# Altium schematic symbol library ICs.SchLib: 65 symbols
Pins are listed as number, name and electrical type; pins without a type are passive.

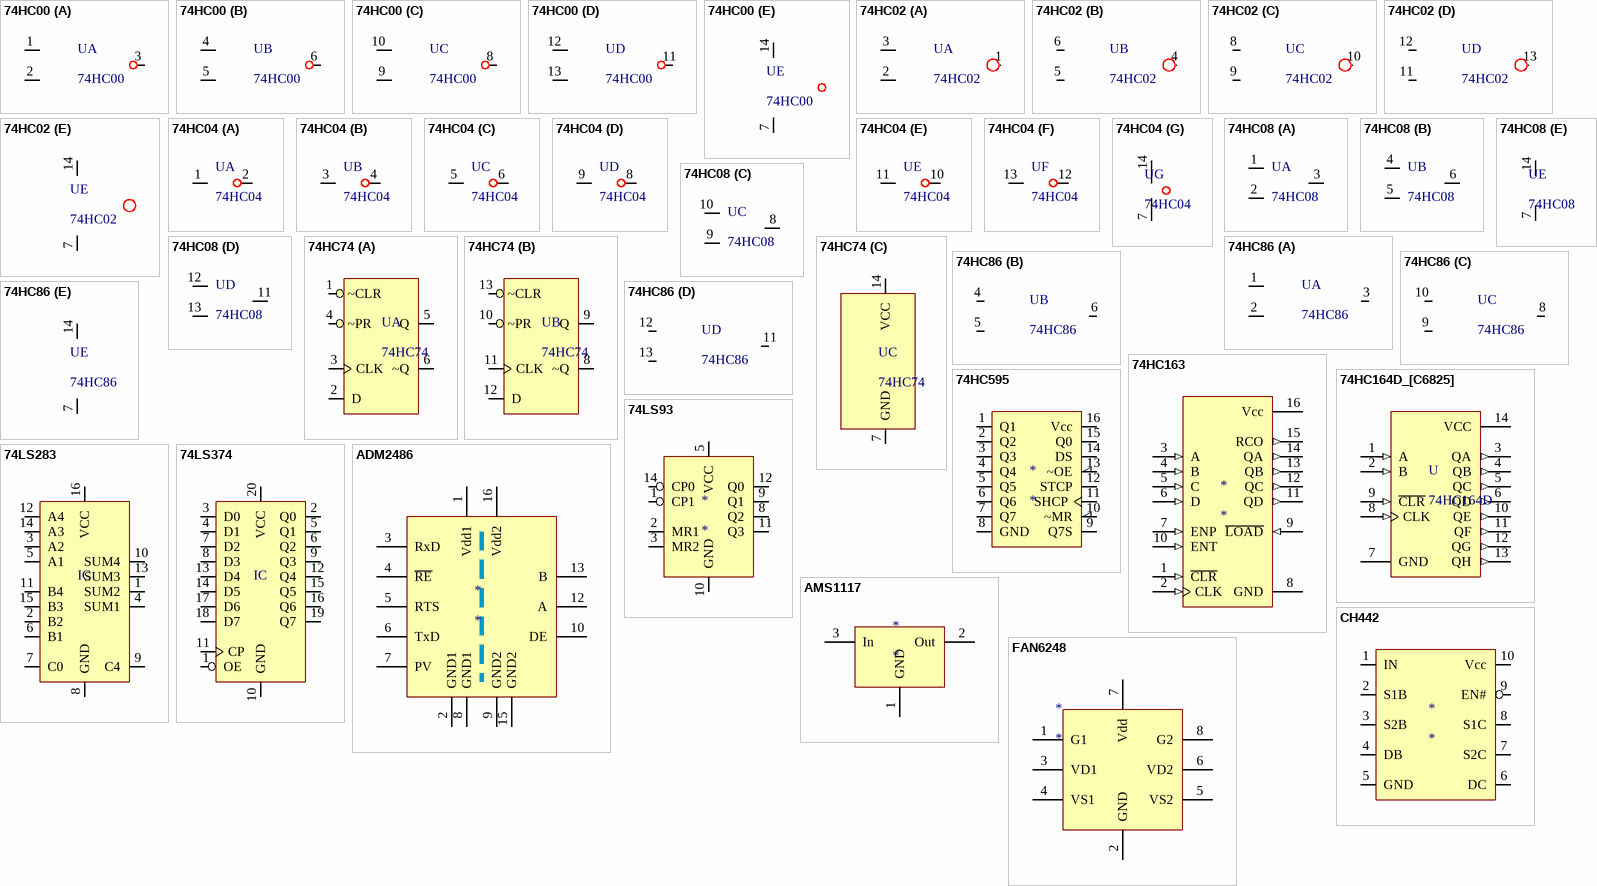
[diagram p0: symbols 74HC00 to FAN6248]

## 74HC00
designator U
footprint DIP14
footprint SO-14
part A pins: 1, 2, 3
part B pins: 4, 5, 6
part C pins: 8, 9, 10
part D pins: 11, 12, 13
part E pins: 7, 14

## 74HC02
designator U
footprint DIP14
footprint SO-14
part A pins: 1, 2, 3
part B pins: 4, 5, 6
part C pins: 8, 9, 10
part D pins: 11, 12, 13
part E pins: 7, 14

## 74HC04
designator U
footprint DIP14
footprint SO-14
part A pins: 1, 2
part B pins: 3, 4
part C pins: 5, 6
part D pins: 8, 9
part E pins: 10, 11
part F pins: 12, 13
part G pins: 7, 14

## 74HC08
designator U
footprint DIP14
footprint SO-14
part A pins: 1, 2, 3
part B pins: 4, 5, 6
part C pins: 8, 9, 10
part D pins: 11, 12, 13
part E pins: 7, 14

## 74HC74
designator U
footprint DIP14
footprint SO-14
part A pins: 1  ~CLR, 2 D, 3 CLK, 4  ~PR, 5 Q, 6 ~Q
part B pins: 8 ~Q, 9 Q, 10  ~PR, 11 CLK, 12 D, 13  ~CLR
part C pins: 7 GND, 14 VCC (power)

## 74HC86
designator U
footprint DIP14
footprint SO-14
part A pins: 1, 2, 3
part B pins: 4, 5, 6
part C pins: 8, 9, 10
part D pins: 11, 12, 13
part E pins: 7, 14

## 74HC163
designator *
footprint SO-16
pins: 1 ~{CLR} (in), 2 CLK (in), 3 A (in), 4 B (in), 5 C (in), 6 D (in), 7 ENP (in), 8 GND (power), 9 ~{LOAD} (in), 10 ENT (in), 11 QD (out), 12 QC (out), 13 QB (out), 14 QA (out), 15 RCO (out), 16 Vcc (power)

## 74HC164D_[C6825]
designator U, comment 74HC164D
ComponentLink1URL: http://www.szlcsc.com/product/details_7297.html; Package: SOIC-14_150mil; Supplier: LC; SuppliersPartNumber: C6825
footprint SO-14
pins: 1 A (in), 2 B (in), 3 QA (out), 4 QB (out), 5 QC (out), 6 QD (out), 7 GND (power), 8 CLK (in), 9 ~{CLR} (in), 10 QE (out), 11 QF (out), 12 QG (out), 13 QH (out), 14 VCC (power)

## 74HC595
designator *
footprint DIP-16
footprint SO-16
pins: 1 Q1, 2 Q2, 3 Q3, 4 Q4, 5 Q5, 6 Q6, 7 Q7, 8 GND, 9 Q7S, 10 ~MR, 11 SHCP, 12 STCP, 13 ~OE, 14 DS, 15 Q0, 16 Vcc

## 74LS93
designator *
footprint SO-14
pins: 1 CP1, 2 MR1, 3 MR2, 5 VCC, 8 Q2, 9 Q1, 10 GND, 11 Q3, 12 Q0, 14 CP0

## 74LS283
designator IC  (value not drawn)
footprint DIP-16
pins: 1 SUM2, 2 B2, 3 A2, 4 SUM1, 5 A1, 6 B1, 7 C0, 8 GND, 9 C4, 10 SUM4, 11 B4, 12 A4, 13 SUM3, 14 A3, 15 B3, 16 VCC

## 74LS374
designator IC  (value not drawn)
footprint DIP-20 (Footprint not found)
pins: 1 OE, 2 Q0, 3 D0, 4 D1, 5 Q1, 6 Q2, 7 D2, 8 D3, 9 Q3, 10 GND, 11 CP, 12 Q4, 13 D4, 14 D5, 15 Q5, 16 Q6, 17 D6, 18 D7, 19 Q7, 20 VCC

## ADM2486
designator *
footprint SOIC-16W
pins: 1 Vdd1, 2 GND1, 3 RxD (power), 4 ~{RE}, 5 RTS (power), 6 TxD, 7 PV (power), 8 GND1, 9 GND2, 10 DE (power), 12 A (power), 13 B, 15 GND2, 16 Vdd2

## AMS1117
designator *
footprint SOT-223
pins: 1 GND, 2 Out, 3 In

## CH442
designator *
footprint MSOP10
pins: 1 IN, 2 S1B, 3 S2B, 4 DB, 5 GND, 6 DC, 7 S2C, 8 S1C, 9 EN#, 10 Vcc

## FAN6248
designator *
footprint SO-8
pins: 1 G1 (power), 2 GND, 3 VD1, 4 VS1 (power), 5 VS2, 6 VD2 (power), 7 Vdd, 8 G2 (power)

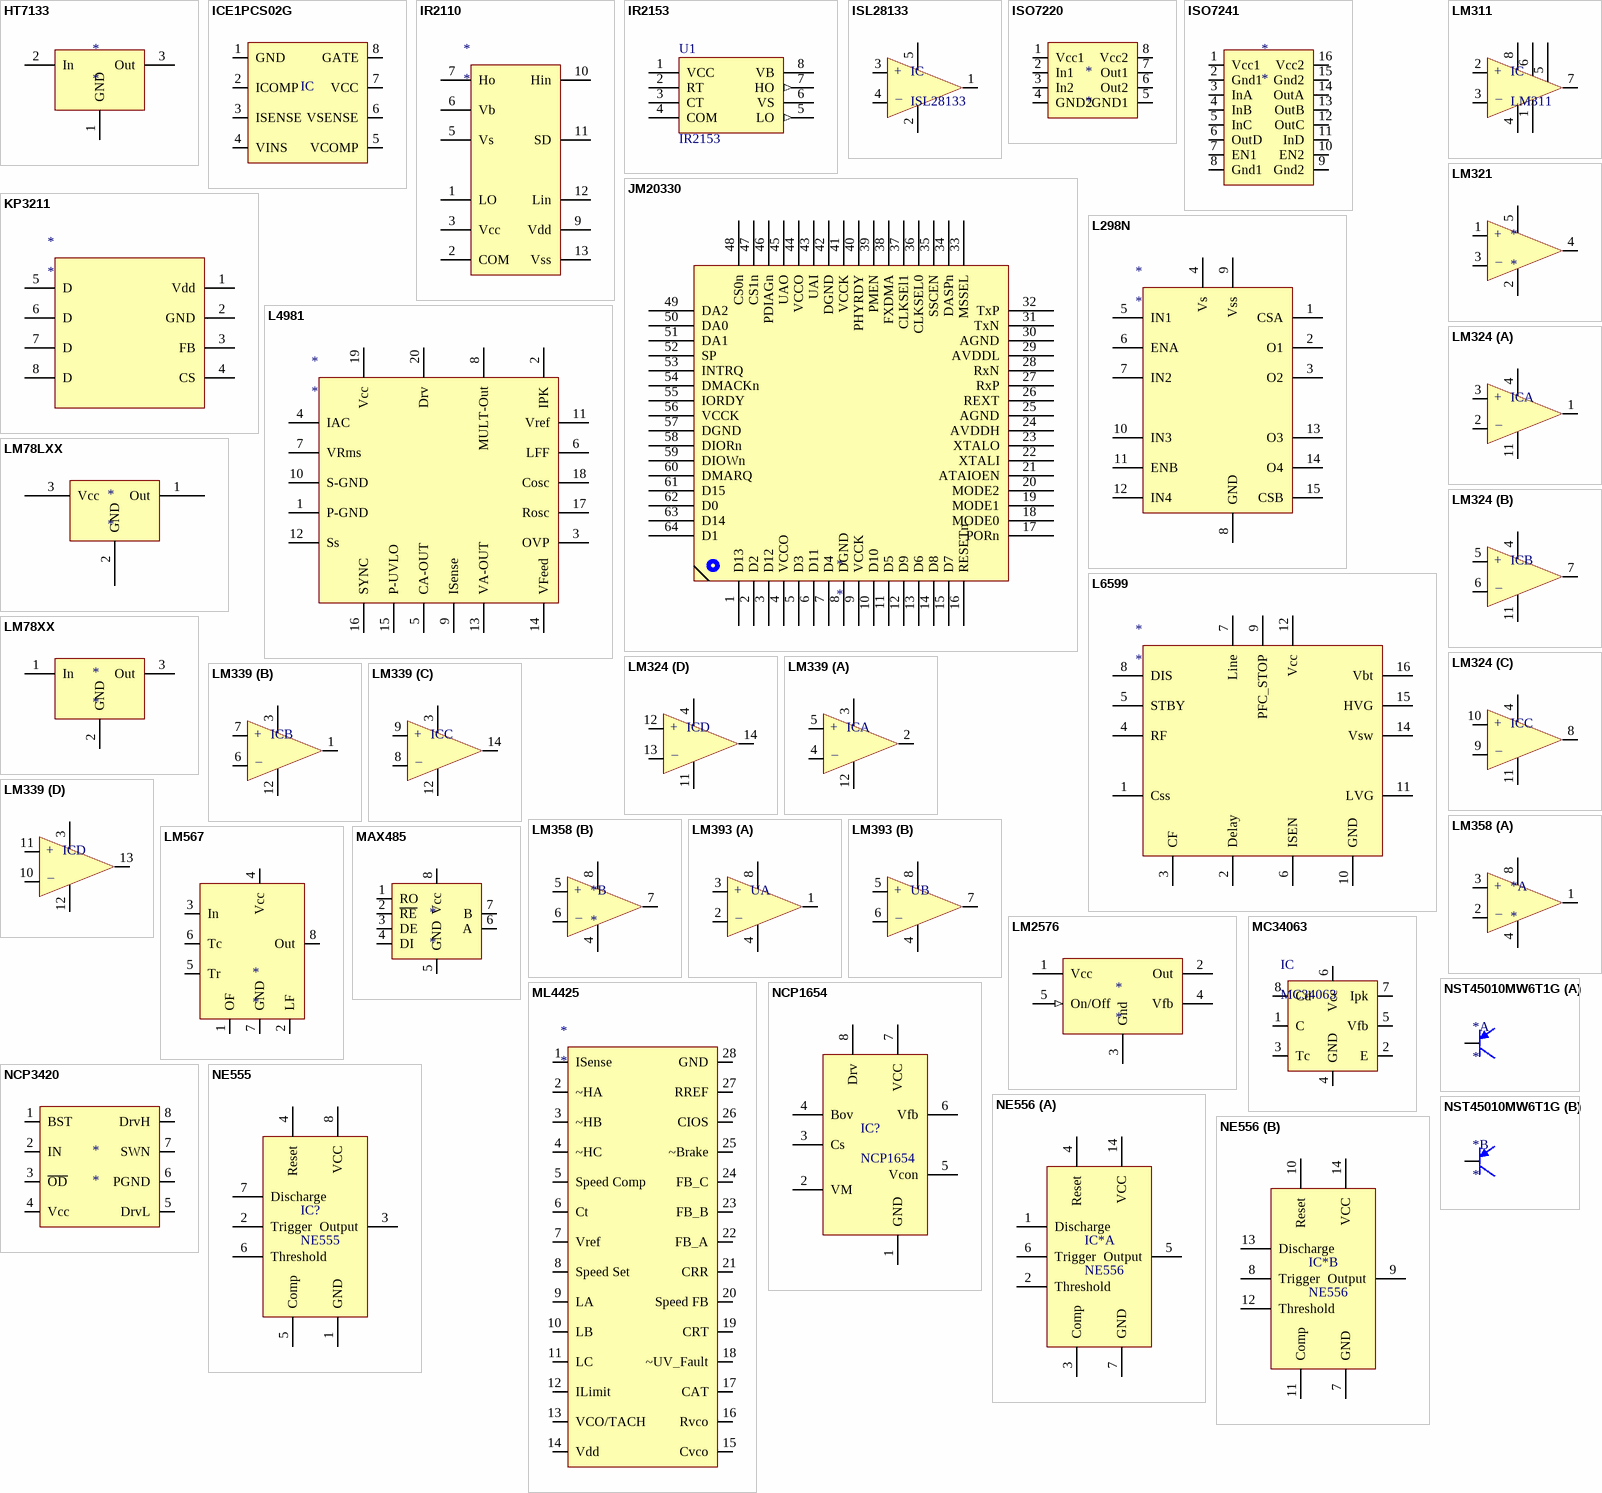
[diagram p1: symbols HT7133 to NST45010MW6T1G]

## HT7133
designator *
footprint SOT-89 (SOT-89-3L SMT PACKAGE)
pins: 1 GND, 2 In, 3 Out

## ICE1PCS02G
designator IC  (value not drawn)
footprint SO-8
pins: 1 GND, 2 ICOMP, 3 ISENSE, 4 VINS, 5 VCOMP, 6 VSENSE, 7 VCC, 8 GATE

## IR2110
designator *
footprint SOIC-14 (8.65 mm × 3.9 mm)
pins: 1 LO, 2 COM, 3 Vcc, 5 Vs, 6 Vb, 7 Ho, 9 Vdd, 10 Hin, 11 SD, 12 Lin, 13 Vss

## IR2153
designator U1
Self-Oscillating Half-Bridge Driver; Published: 8-Jun-2000; LatestRevisionDate: 04-Mar-2005; LatestRevisionNote: Stylized 3D Model Added.; DatasheetVersion: PD60062J; PackageReference: PDIP8; Publisher: Altium Limited; PackageDescription: DIP; 8 Leads; Row Spacing 7.62 mm; Pitch 2.54 mm; Code_JEDEC: MO-001-AN; ComponentLink1Description: Manufacturer Link; ComponentLink1URL: http://www.irf.com/; ComponentLink2Description: Datasheet; ComponentLink2URL: http://www.irf.com/product-info/datasheets/data/ir2153.pdf
3D model PDIP8 (DIP; 8 Leads; Row Spacing 7.62 mm; Pitch 2.54 mm)
footprint DIP-8 (DIP; 8 Leads; Row Spacing 7.62 mm; Pitch 2.54 mm)
footprint SO-8
pins: 1 VCC (power), 2 RT, 3 CT, 4 COM (power), 5 LO (out), 6 VS (power), 7 HO (out), 8 VB (power)

## ISL28133
designator IC
footprint SOT-23-5 (SOT-23/SC-74A; 5 Leads; Body 3.1 x 3 mm, inc. leads (LxW max))
pins: 1 Out, 2 VEE, 3 +, 4 -, 5 VCC
text: _

## ISO7220
designator *
footprint SO-8
pins: 1 Vcc1, 2 In1, 3 In2, 4 GND2, 5 GND1, 6 Out2, 7 Out1, 8 Vcc2

## ISO7241
designator *
footprint SOIC-16W
pins: 1 Vcc1, 2 Gnd1, 3 InA, 4 InB, 5 InC, 6 OutD, 7 EN1, 8 Gnd1, 9 Gnd2, 10 EN2, 11 InD, 12 OutC, 13 OutB, 14 OutA, 15 Gnd2, 16 Vcc2

## JM20330
designator *
pins: 1 D13, 2 D2, 3 D12, 4 VCCO, 5 D3, 6 D11, 7 D4, 8 DGND, 9 VCCK, 10 D10, 11 D5, 12 D9, 13 D6, 14 D8, 15 D7, 16 RESETn, 17 PORn, 18 MODE0, 19 MODE1, 20 MODE2, 21 ATAIOEN, 22 XTALI, 23 XTALO, 24 AVDDH, 25 AGND, 26 REXT, 27 RxP, 28 RxN, 29 AVDDL, 30 AGND, 31 TxN, 32 TxP, 33 MSSEL, 34 DASPn, 35 SSCEN, 36 CLKSEL0, 37 CLKSEl1, 38 FXDMA, 39 PMEN, 40 PHYRDY, 41 VCCK, 42 DGND, 43 UAI, 44 VCCO, 45 UAO, 46 PDIAGn, 47 CS1n, 48 CS0n, 49 DA2, 50 DA0, 51 DA1, 52 SP, 53 INTRQ, 54 DMACKn, 55 IORDY, 56 VCCK, 57 DGND, 58 DIORn, 59 DIOWn, 60 DMARQ, 61 D15, 62 D0, 63 D14, 64 D1

## KP3211
designator *
footprint SOIC-8
pins: 1 Vdd, 2 GND, 3 FB, 4 CS, 5 D, 6 D, 7 D, 8 D

## L298N
designator *
footprint ZIP-15V
footprint ZIP-15H
pins: 1 CSA, 2 O1, 3 O2, 4 Vs, 5 IN1, 6 ENA, 7 IN2, 8 GND, 9 Vss, 10 IN3, 11 ENB, 12 IN4, 13 O3, 14 O4, 15 CSB

## L4981
designator *
footprint SOP20
pins: 1 P-GND, 2 IPK, 3 OVP, 4 IAC, 5 CA-OUT, 6 LFF, 7 VRms, 8 MULT-Out, 9 ISense, 10 S-GND, 11 Vref, 12 Ss, 13 VA-OUT, 14 VFeed, 15 P-UVLO, 16 SYNC, 17 Rosc, 18 Cosc, 19 Vcc, 20 Drv

## L6599
designator *
footprint SO-16
pins: 1 Css, 2 Delay, 3 CF, 4 RF, 5 STBY, 6 ISEN, 7 Line, 8 DIS, 9 PFC_STOP, 10 GND, 11 LVG, 12 Vcc, 14 Vsw, 15 HVG, 16 Vbt

## LM78LXX
designator *
footprint TO-92A (TO, Flat Index; 3 In-Line, Axial Leads; Body Dia. 4.5mm; Leads 0.51 x 0.48 mm (max))
pins: 1 Out, 2 GND, 3 Vcc

## LM78XX
designator *
footprint TO-220
pins: 1 In, 2 GND, 3 Out

## LM311
designator IC
footprint DIP-8
pins: 1 GND, 2, 3, 4 VEE, 5 BALANCE, 6 BAL/STRB, 7, 8 VCC
text: +; _

## LM321
designator *
pins: 1 +, 2 VEE, 3 -, 4 Out, 5 VCC
text: _

## LM324
designator IC  (value not drawn)
footprint DIP-8
part A pins: 1, 2, 3, 4 VCC, 11 VEE
part B pins: 4 VCC, 5, 6, 7, 11 VEE
part C pins: 4 VCC, 8, 9, 10, 11 VEE
part D pins: 4 VCC, 11 VEE, 12, 13, 14
part A text: +; _
part B text: +; _
part C text: +; _
part D text: +; _

## LM339
designator IC  (value not drawn)
footprint SO-14
part A pins: 2, 3 VCC, 4, 5, 12 GND
part B pins: 1, 3 VCC, 6, 7, 12 GND
part C pins: 3 VCC, 8, 9, 12 GND, 14
part D pins: 3 VCC, 10, 11, 12 GND, 13
part A text: +; _
part B text: +; _
part C text: +; _
part D text: +; _

## LM358
designator *
SuppliersPartNumber: C7950
footprint SO-8
part A pins: 1, 2, 3, 4 VEE, 8 VCC
part B pins: 4 VEE, 5, 6, 7, 8 VCC
part A text: +; _
part B text: +; _

## LM393
designator U
SuppliersPartNumber: C7955
footprint SO-8
part A pins: 1, 2, 3, 4 GND, 8 VCC
part B pins: 4 GND, 5, 6, 7, 8 VCC
part A text: +; _
part B text: +; _

## LM567
designator *
footprint DIP-8
pins: 1 OF, 2 LF, 3 In, 4 Vcc, 5 Tr, 6 Tc, 7 GND, 8 Out

## LM2576
designator *
footprint TO220_5Pin
pins: 1 Vcc, 2 Out, 3 Gnd, 4 Vfb, 5 On/Off (in)

## MAX485
designator *
footprint SO-8
pins: 1 RO, 2 ~{RE}, 3 DE, 4 DI, 5 GND, 6 A, 7 B, 8 Vcc

## MC34063
designator IC
footprint DIP-8
footprint SO-8
pins: 1 C, 2 E, 3 Tc, 4 GND, 5 Vfb, 6 Vcc, 7 Ipk, 8 Cd

## ML4425
designator *
footprint SOIC-28
pins: 1 ISense, 2 ~HA, 3 ~HB, 4 ~HC, 5 Speed Comp, 6 Ct, 7 Vref, 8 Speed Set, 9 LA, 10 LB, 11 LC, 12 ILimit, 13 VCO/TACH, 14 Vdd, 15 Cvco, 16 Rvco, 17 CAT, 18 ~UV_Fault, 19 CRT, 20 Speed FB, 21 CRR, 22 FB_A, 23 FB_B, 24 FB_C, 25 ~Brake, 26 CIOS, 27 RREF, 28 GND

## NCP1654
designator IC?
footprint SO-8
pins: 1 GND, 2 VM, 3 Cs, 4 Bov, 5 Vcon, 6 Vfb, 7 VCC (power), 8 Drv

## NCP3420
designator *
footprint SO-8
pins: 1 BST, 2 IN, 3 ~{OD}, 4 Vcc, 5 DrvL, 6 PGND, 7 SWN, 8 DrvH

## NE555
designator IC?
footprint DIP-8
pins: 1 GND, 2 Trigger, 3 Output, 4 Reset, 5 Comp, 6 Threshold, 7 Discharge, 8 VCC (power)

## NE556
designator IC*
footprint DIP14
part A pins: 1 Discharge, 2 Threshold, 3 Comp, 4 Reset, 5 Output, 6 Trigger, 7 GND, 14 VCC (power)
part B pins: 7 GND, 8 Trigger, 9 Output, 10 Reset, 11 Comp, 12 Threshold, 13 Discharge, 14 VCC (power)

## NST45010MW6T1G
designator *
footprint SOT-363
part A pins: 1 E, 2 B, 6 C
part B pins: 3 C, 4 E, 5 B

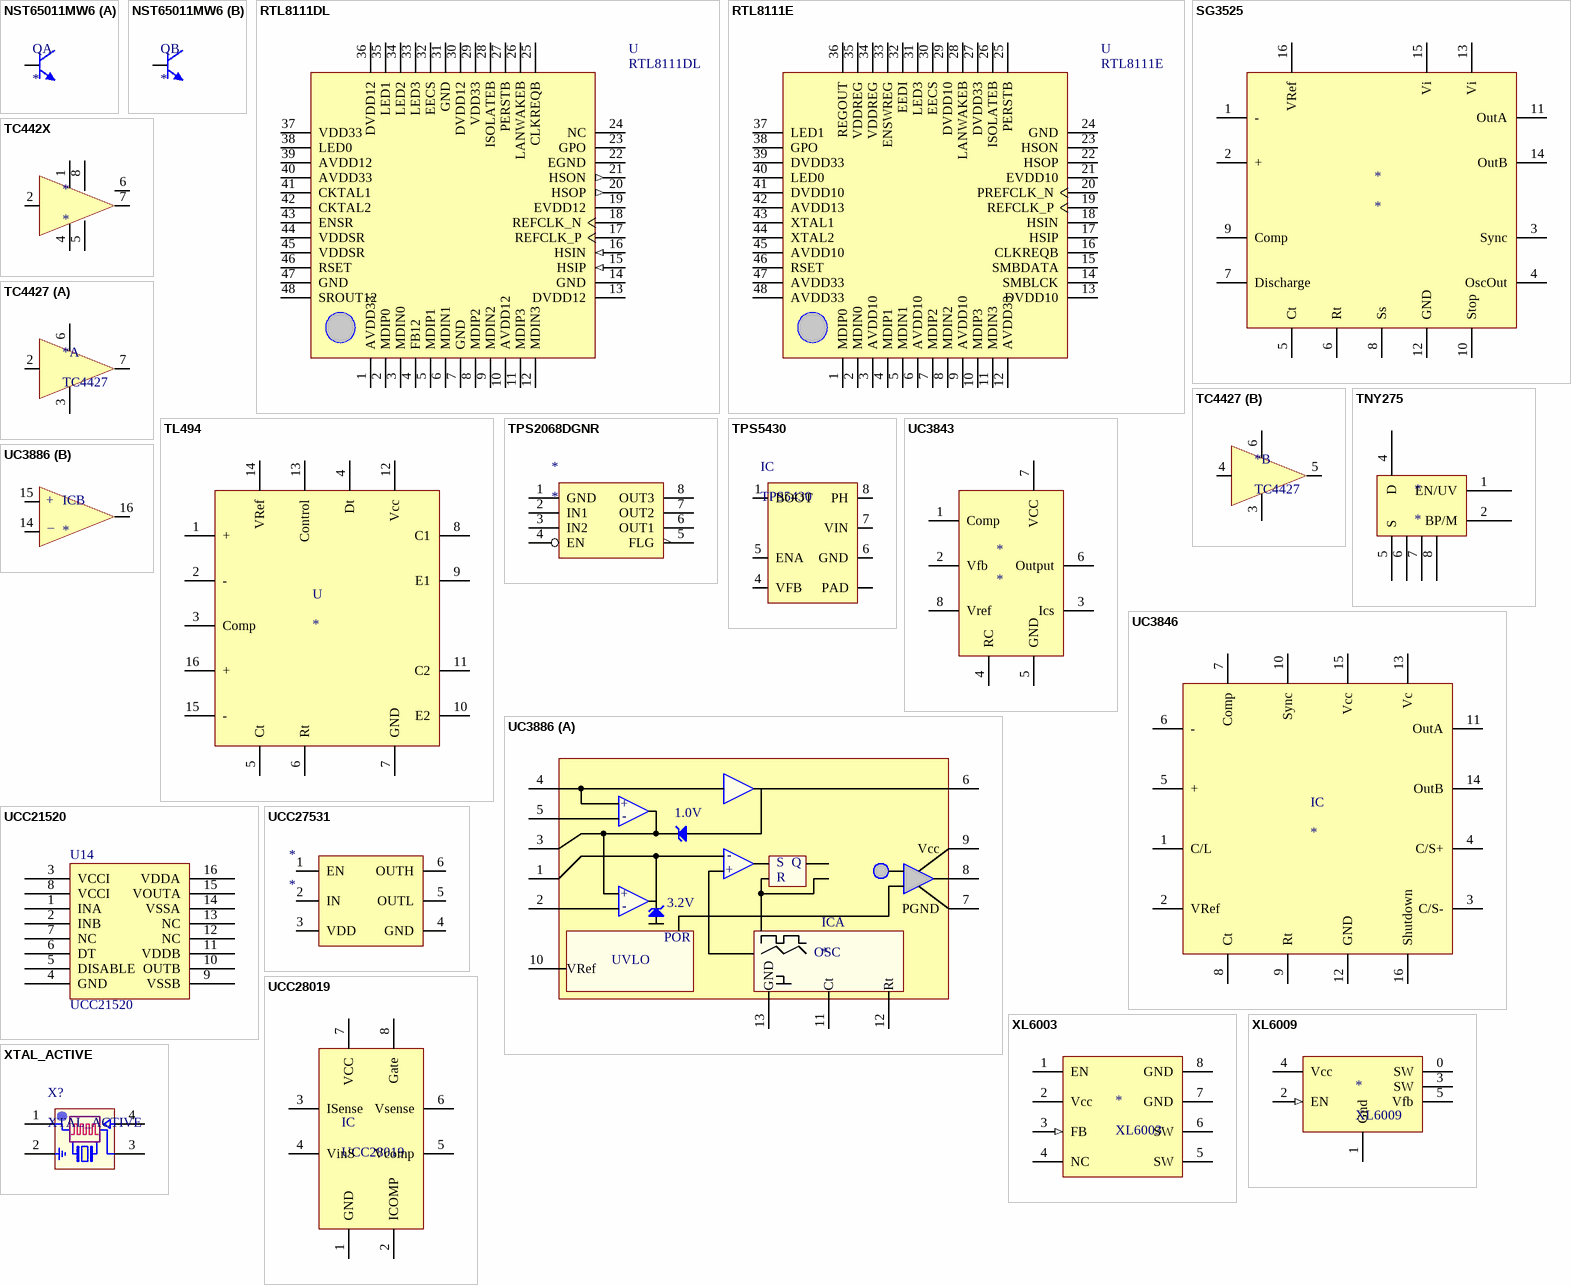
[diagram p2: symbols NST65011MW6 to XTAL_ACTIVE]

## NST65011MW6
designator Q
footprint SOT-363
part A pins: 1 E, 2 B, 6 C
part B pins: 3 C, 4 E, 5 B

## RTL8111DL
designator U
footprint LQFP-48
pins: 1 AVDD33, 2 MDIP0, 3 MDIN0, 4 FB12, 5 MDIP1, 6 MDIN1, 7 GND, 8 MDIP2, 9 MDIN2, 10 AVDD12, 11 MDIP3, 12 MDIN3, 13 DVDD12, 14 GND, 15 HSIP (in), 16 HSIN (in), 17 REFCLK_P, 18 REFCLK_N, 19 EVDD12, 20 HSOP (out), 21 HSON (out), 22 EGND, 23 GPO, 24 NC, 25 CLKREQB, 26 LANWAKEB, 27 PERSTB, 28 ISOLATEB, 29 VDD33, 30 DVDD12, 31 GND, 32 EECS, 33 LED3, 34 LED2, 35 LED1, 36 DVDD12, 37 VDD33, 38 LED0, 39 AVDD12, 40 AVDD33, 41 CKTAL1, 42 CKTAL2, 43 ENSR, 44 VDDSR, 45 VDDSR, 46 RSET, 47 GND, 48 SROUT12

## RTL8111E
designator U
footprint QFN-48 (QFN, 48-Leads, Body 6,0x6,0mm (max), Pitch 0,40mm, IPC Medium Density)
pins: 1 MDIP0, 2 MDIN0, 3 AVDD10, 4 MDIP1, 5 MDIN1, 6 AVDD10, 7 MDIP2, 8 MDIN2, 9 AVDD10, 10 MDIP3, 11 MDIN3, 12 AVDD33, 13 DVDD10, 14 SMBLCK (oc), 15 SMBDATA (oc), 16 CLKREQB, 17 HSIP, 18 HSIN, 19 REFCLK_P, 20 PREFCLK_N, 21 EVDD10, 22 HSOP, 23 HSON, 24 GND, 25 PERSTB, 26 ISOLATEB, 27 DVDD33, 28 LANWAKEB, 29 DVDD10, 30 EECS, 31 LED3, 32 EEDI, 33 ENSWREG, 34 VDDREG, 35 VDDREG, 36 REGOUT, 37 LED1, 38 GPO, 39 DVDD33, 40 LED0, 41 DVDD10, 42 AVDD13, 43 XTAL1, 44 XTAL2, 45 AVDD10, 46 RSET, 47 AVDD33, 48 AVDD33

## SG3525
designator *
footprint DIP-16
pins: 1 -, 2 +, 3 Sync, 4 OscOut, 5 Ct, 6 Rt, 7 Discharge, 8 Ss, 9 Comp, 10 Stop, 11 OutA, 12 GND, 13 Vi, 14 OutB, 15 Vi, 16 VRef

## TC442X
designator *
footprint DIP-8
pins: 1 VCC, 2 In, 4 GND, 5 GND, 6 Out, 7 Out, 8 VCC

## TC4427
designator *
footprint DIP-8
part A pins: 2, 3 GND, 6 VCC, 7
part B pins: 3 GND, 4, 5, 6 VCC

## TL494
designator U
SuppliersPartNumber: C19882
footprint SO-16
pins: 1 +, 2 -, 3 Comp, 4 Dt, 5 Ct, 6 Rt, 7 GND, 8 C1, 9 E1, 10 E2, 11 C2, 12 Vcc, 13 Control, 14 VRef, 15 -, 16 +

## TNY275
designator *
footprint DIP-8
pins: 1 EN/UV, 2 BP/M, 4 D, 5 S, 6 S, 7 S, 8 S

## TPS2068DGNR
designator *
footprint SO-8
pins: 1 GND, 2 IN1, 3 IN2, 4 EN, 5 FLG, 6 OUT1, 7 OUT2 (power), 8 OUT3

## TPS5430
designator IC
footprint SO-8-PAD
pins: 1 BOOT, 4 VFB, 5 ENA, 6 GND, 7 VIN, 8 PH, PAD

## UC3843
designator *
SuppliersPartNumber: C16414
footprint SO-8
pins: 1 Comp, 2 Vfb, 3 Ics, 4 RC, 5 GND, 6 Output, 7 VCC (power), 8 Vref

## UC3846
designator IC
footprint SO-16
pins: 1 C/L, 2 VRef, 3 C/S-, 4 C/S+, 5 +, 6 -, 7 Comp, 8 Ct, 9 Rt, 10 Sync, 11 OutA, 12 GND, 13 Vc, 14 OutB, 15 Vcc, 16 Shutdown

## UC3886
designator IC
footprint SO-16
part A pins: 1 CAO, 2 CAM, 3 Comp, 4 CMD, 5 VSEN, 6 BUF (power), 7 PGND (power), 8 OutA, 9 Vcc (power), 10 VRef, 11 Ct, 12 Rt, 13 GND
part B pins: 14, 15, 16
part A text: +; 1.0V; -; S; Q; R; 3.2V; POR; OSC; UVLO
part B text: +; _

## UCC21520
designator U14
footprint SOIC-16W (SIZE:10mm*10.8mm;PIN:1.27mm;)
footprint SOIC-16W_UCC21520
pins: 1 INA, 2 INB, 3 VCCI, 4 GND, 5 DISABLE, 6 DT, 7 NC, 8 VCCI, 9 VSSB, 10 OUTB, 11 VDDB, 12 NC, 13 NC, 14 VSSA, 15 VOUTA, 16 VDDA

## UCC27531
designator *
footprint SOT-23-6 (SOT-23/SC-74A; 5 Leads; Body 3.1 x 3 mm, inc. leads (LxW max))
pins: 1 EN, 2 IN, 3 VDD, 4 GND, 5 OUTL, 6 OUTH

## UCC28019
designator IC
footprint SO-8
pins: 1 GND, 2 ICOMP, 3 ISense, 4 VinS, 5 Vcomp, 6 Vsense, 7 VCC (power), 8 Gate

## XL6003
designator *
footprint SO-8
pins: 1 EN, 2 Vcc, 3 FB (in), 4 NC, 5 SW, 6 SW, 7 GND, 8 GND

## XL6009
designator *
footprint TO-263-5
pins: 0 SW, 1 Gnd, 2 EN (in), 3 SW, 4 Vcc, 5 Vfb

## XTAL_ACTIVE
designator X?
Oscillator, Active crystal
footprint X2520 (Quartz Crystal, SM; Body 2.5 x 2.0 mm)
footprint X3225 (Quartz Crystal, SM; Body 3.2 x 2.5 mm)
pins: 1 OE/NC, 2 GND, 3 CLKO, 4 GND